# EAGLE library part ENC28J60MODULE-WAVESHARE (library arduino)
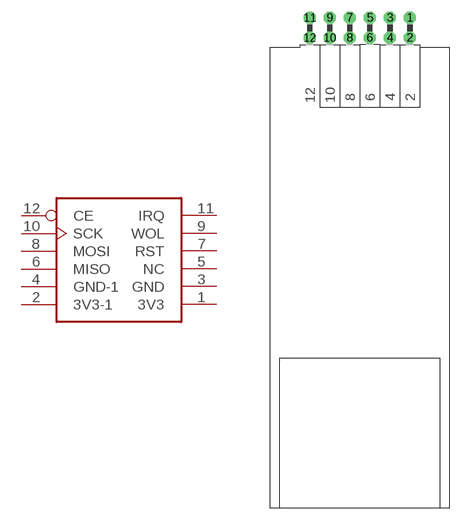
[diagram p9: symbol with the pads of FE06-2W; footprint FE06-2W]

Designator prefix -

## ENC28J60MODULE-WAVESHARE  [FE06-2W]
1  3V3  pwr
2  3V3-1  pwr
3  GND  pwr
4  GND-1  pwr
5  NC  nc
6  MISO  out
7  RST
8  MOSI  in
9  WOL
10  SCK
11  IRQ
12  CE

## Footprint FE06-2W (pad centres in mm)
FEMALE HEADER
drill 1.016 octagon: 1 13.97,11.43; 2 13.97,8.89; 3 11.43,11.43; 4 11.43,8.89; 5 8.89,11.43; 6 8.89,8.89; 7 6.35,11.43; 8 6.35,8.89; 9 3.81,11.43; 10 3.81,8.89; 11 1.27,11.43; 12 1.27,8.89